# Altium footprint library IC.PcbLib: 18 footprints (part 1 of 2)
Each footprint in its own frame and in the unit in brackets; x right, y up, seen from the top. Pads: shape width x height; smd on the part's side, far side on the other; paste and mask are expansions set on the pad; w line width, h text height; cw(c..) or ccw(c..) is an arc to the next point about the centre after c.
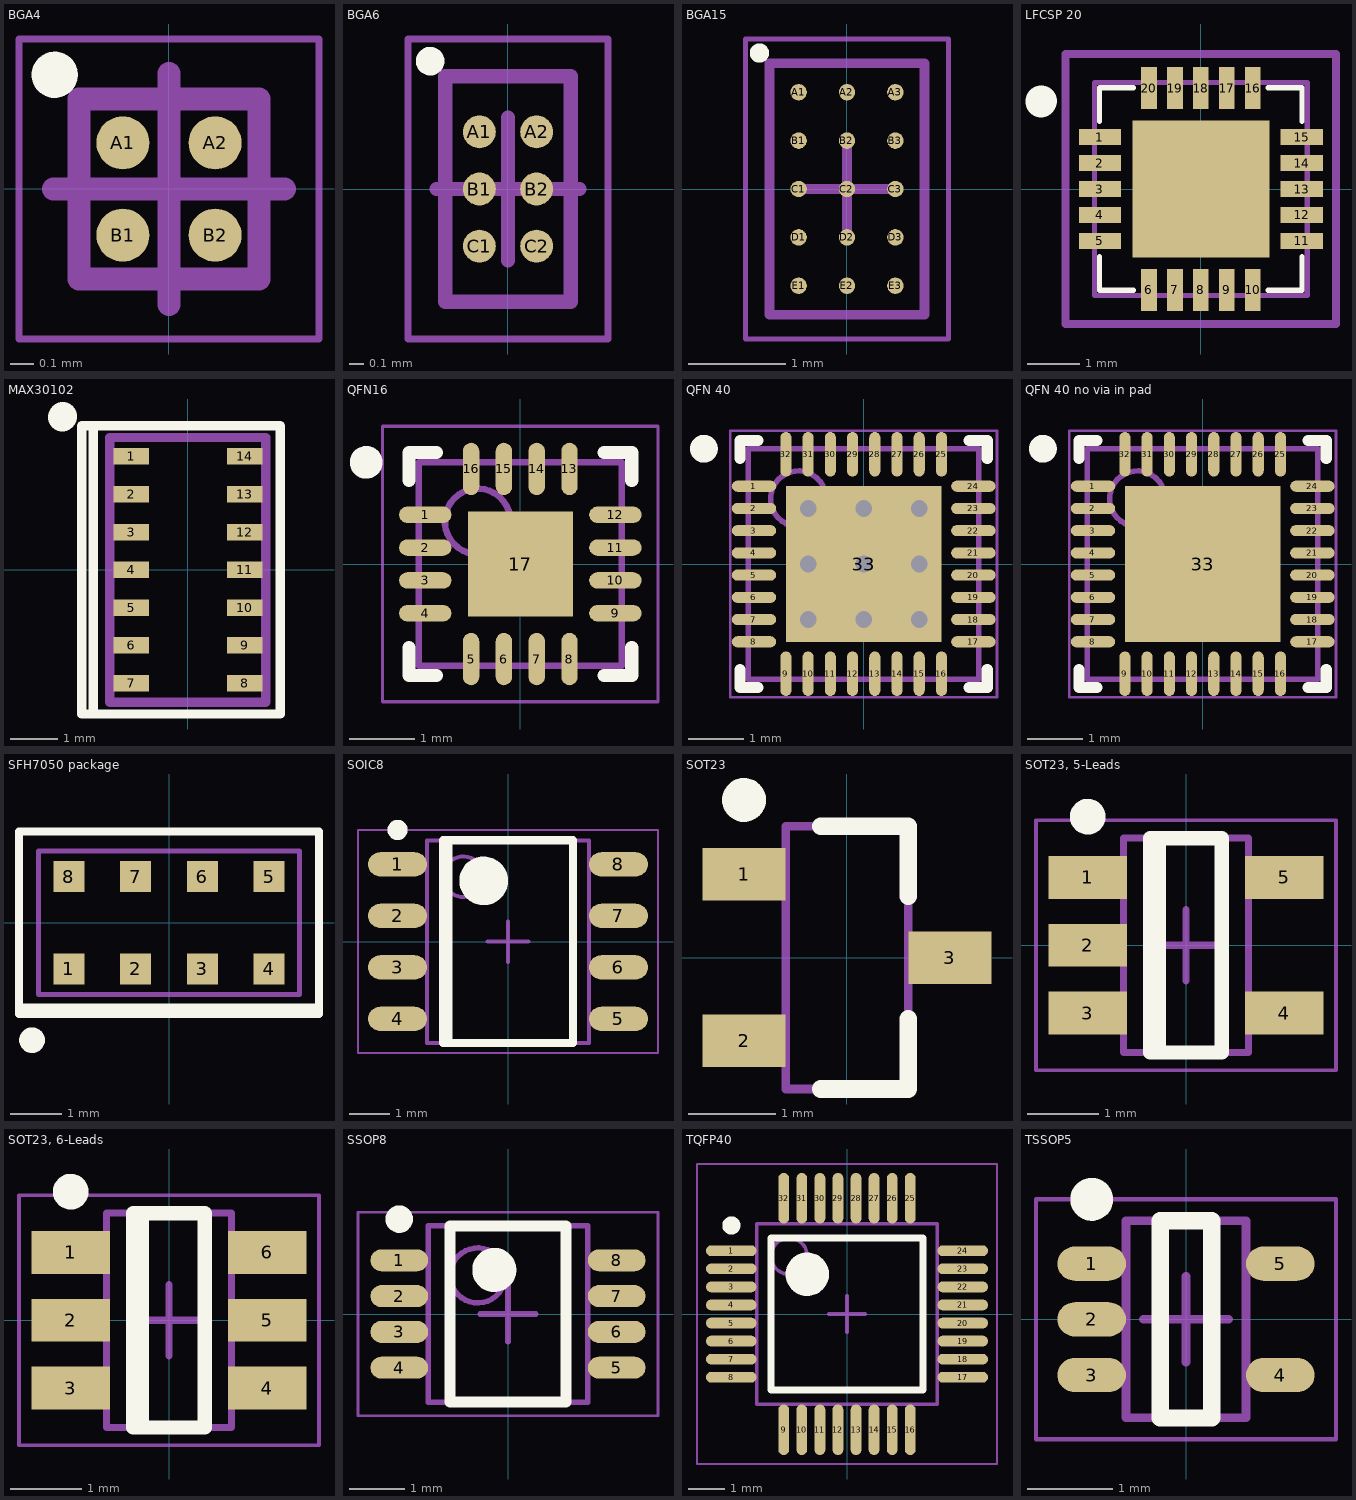
[diagram p0: the footprints below, top view; thin cyan lines are the x and y axes]

## BGA4 [mm] "BGA, 4-Leads, Body 0.78x0.78mmx0.50mm, Pitch 0.40mm"
height 0.5
pads (4):
  round 0.23 smd mask+0.05: A1(-0.2,0.2) A2(0.2,0.2) B1(-0.2,-0.2) B2(0.2,-0.2)
Top Overlay:
  circle w0.1: c-0.495,0.495 r0.05
Mechanical 13:
  lines w0.1: -0.39,-0.39 -0.39,0.39 0.39,0.39 0.39,-0.39 -0.39,-0.39
Mechanical 15:
  lines w0.03: -0.65,-0.65 -0.65,0.65 0.65,0.65 0.65,-0.65 -0.65,-0.65
  lines w0.1: -0.5,0 0.5,0 ; 0,-0.5 0,0.5
3D body: height 0.5, standoff 0.13, extent -0.39,-0.39 0.39,0.39

## BGA6 [mm] "BGA, 6-Leads, Body 0.88x1.58mmx0.50mm, Pitch 0.40mm"
height 0.5
pads (6):
  round 0.23 smd mask+0.05: A1(-0.2,0.4) A2(0.2,0.4) B1(-0.2,0) B2(0.2,0) C1(-0.2,-0.4) C2(0.2,-0.4)
Top Overlay:
  circle w0.1: c-0.545,0.895 r0.05
Mechanical 13:
  lines w0.1: -0.44,-0.79 -0.44,0.79 0.44,0.79 0.44,-0.79 -0.44,-0.79
Mechanical 15:
  lines w0.05: -0.7,-1.05 -0.7,1.05 0.7,1.05 0.7,-1.05 -0.7,-1.05
  lines w0.1: -0.5,0 0.5,0 ; 0,-0.5 0,0.5
3D body: height 0.5, standoff 0.13, extent -0.44,-0.79 0.44,0.79

## BGA15 [mm] "BGA, 15-Leads, Body 1,60x2,60mmx0,50mm, Pitch 0,50mm"
height 0.5
pads (15):
  round 0.17 smd mask+0.05: A1(-0.5,1) A2(0,1) A3(0.5,1) B1(-0.5,0.5) B2(0,0.5) B3(0.5,0.5) C1(-0.5,0) C2(0,0) C3(0.5,0) D1(-0.5,-0.5) D2(0,-0.5) D3(0.5,-0.5) E1(-0.5,-1) E2(0,-1) E3(0.5,-1)
Top Overlay:
  circle w0.1: c-0.905,1.405 r0.05
Mechanical 13:
  lines w0.1: -0.8,-1.3 0.8,-1.3 0.8,1.3 -0.8,1.3 -0.8,-1.3
Mechanical 15:
  lines w0.05: -1.05,-1.55 1.05,-1.55 1.05,1.55 -1.05,1.55 -1.05,-1.55
  lines w0.1: -0.5,0 0.5,0 ; 0,-0.5 0,0.5
3D body "BGA15C50P3X5_160X260X50.step": height 0.5, standoff 0, extent -0.8,-1.3 0.8,1.3

## LFCSP 20 [mil] "LFCSP_WQ 4x4MM JDEC"
pads (21):
  rect 32x12 smd mask+0: 1(-76.5,39.37) 2(-76.5,19.68) 3(-76.5,0) 4(-76.5,-19.68) 5(-76.5,-39.37) 11(76.5,-39.37) 12(76.5,-19.68) 13(76.5,0) 14(76.5,19.68) 15(76.5,39.37)
  rect 12x32 smd mask+0: 6(-39.37,-76.5) 7(-19.68,-76.5) 8(0,-76.5) 9(19.68,-76.5) 10(39.37,-76.5) 16(39.37,76.5) 17(19.68,76.5) 18(0,76.5) 19(-19.68,76.5) 20(-39.37,76.5)
  rect 104x104 smd mask+0: ""(0,0)
Top Overlay:
  lines w3.94: -76.77,-51.18 -76.77,-76.77 -51.18,-76.77 ; -76.77,51.18 -76.77,76.77 -51.18,76.77 ; 51.18,-76.77 76.77,-76.77 76.77,-51.18 ; 51.18,76.77 76.77,76.77 76.77,51.18
  lines w23.62: -121.26,65.96 ccw(c-123.03,66.82) -121.06,66.82
Mechanical 13:
  lines w3.94: -80.71,-80.71 -80.71,80.71 80.71,80.71 80.71,-80.71 -80.71,-80.71
Mechanical 15:
  lines w6: -102.5,-102.5 -102.5,102.5 102.5,102.5 102.5,-102.5 -102.5,-102.5
3D body: height 27.56, standoff 0, extent -80.71,-80.71 80.71,80.71

## MAX30102 [mm]
pads (14):
  rect 0.75x0.35 smd mask+0: 1(-1.2,2.4) 2(-1.2,1.6) 3(-1.2,0.8) 4(-1.2,0) 5(-1.2,-0.8) 6(-1.2,-1.6) 7(-1.2,-2.4) 8(1.2,-2.4) 9(1.2,-1.6) 10(1.2,-0.8) 11(1.2,0) 12(1.2,0.8) 13(1.2,1.6) 14(1.2,2.4)
Top Overlay:
  lines w0.2: -2,-3.05 -2,3.05 ; -2.25,-3.05 1.95,-3.05 1.95,3.05 -2.25,3.05 -2.25,-3.05
  lines w0.6: -2.655,3.225 ccw(c-2.7,3.247) -2.65,3.247
Mechanical 13:
  lines w0.2: -1.65,-2.8 -1.65,2.8 1.65,2.8 1.65,-2.8 -1.65,-2.8
3D body: height 1, standoff 0.05, extent -1.65,-2.8 1.65,2.8

## QFN16 [mm] "QFN, 16-Leads, Body 3.00x3.00mm, Pitch 0.50mm, Thermal Pad 1.68x1.68mm, IPC Medium Density"
height 1
pads (17):
  oval 0.8x0.25 smd: 1(-1.45,0.75) 2(-1.45,0.25) 3(-1.45,-0.25) 4(-1.45,-0.75) 9(1.45,-0.75) 10(1.45,-0.25) 11(1.45,0.25) 12(1.45,0.75)
  oval 0.25x0.8 smd: 5(-0.75,-1.45) 6(-0.25,-1.45) 7(0.25,-1.45) 8(0.75,-1.45) 13(0.75,1.45) 14(0.25,1.45) 15(-0.25,1.45) 16(-0.75,1.45)
  rect 1.6x1.6 smd: 17(0,0)
Top Overlay:
  circle w0.25: c-2.35,1.55 r0.125
  lines w0.2: -1.7,-1.275 -1.7,-1.7 -1.275,-1.7 ; -1.7,1.275 -1.7,1.7 -1.275,1.7 ; 1.275,-1.7 1.7,-1.7 1.7,-1.275 ; 1.275,1.7 1.7,1.7 1.7,1.275
Mechanical 13:
  circle w0.1: c-0.65,0.65 r0.5
  lines w0.1: -1.55,-1.55 1.55,-1.55 1.55,1.55 -1.55,1.55 -1.55,-1.55
Mechanical 15:
  lines w0.05: -2.1,-2.1 2.1,-2.1 2.1,2.1 -2.1,2.1 -2.1,-2.1
  lines w0.1: -0.5,0 0.5,0 ; 0,-0.5 0,0.5
3D body: height 1, standoff 0.05, extent -1.55,-1.55 1.55,1.55

## QFN 40 [mm] "QFN, 32-Leads, Body 4,00x4,00mm, Pitch 0,40mm, Thermal Pad 2,80x2,80mm, IPC Medium Density"
height 1
pads (33):
  oval 0.8x0.2 smd mask+0.05: 1(-1.975,1.4) 2(-1.975,1) 3(-1.975,0.6) 4(-1.975,0.2) 5(-1.975,-0.2) 6(-1.975,-0.6) 7(-1.975,-1) 8(-1.975,-1.4) 17(1.975,-1.4) 18(1.975,-1) 19(1.975,-0.6) 20(1.975,-0.2) 21(1.975,0.2) 22(1.975,0.6) 23(1.975,1) 24(1.975,1.4)
  oval 0.2x0.8 smd mask+0.05: 9(-1.4,-1.975) 10(-1,-1.975) 11(-0.6,-1.975) 12(-0.2,-1.975) 13(0.2,-1.975) 14(0.6,-1.975) 15(1,-1.975) 16(1.4,-1.975) 25(1.4,1.975) 26(1,1.975) 27(0.6,1.975) 28(0.2,1.975) 29(-0.2,1.975) 30(-0.6,1.975) 31(-1,1.975) 32(-1.4,1.975)
  rect 2.8x2.8 smd mask+0.05: 33(0,0)
via 1,-1 diameter 0.5 hole 0.3
via 0,-1 diameter 0.5 hole 0.3
via 1,0 diameter 0.5 hole 0.3
via -1,0 diameter 0.5 hole 0.3
via 0,1 diameter 0.5 hole 0.3
via 0,0 diameter 0.5 hole 0.3
via -1,-1 diameter 0.5 hole 0.3
via 1,1 diameter 0.5 hole 0.3
via -1,1 diameter 0.5 hole 0.3
Top Overlay:
  circle w0.25: c-2.875,2.075 r0.125
  lines w0.2: -2.225,-1.9 -2.225,-2.225 -1.9,-2.225 ; -2.225,1.9 -2.225,2.225 -1.9,2.225 ; 1.9,-2.225 2.225,-2.225 2.225,-1.9 ; 1.9,2.225 2.225,2.225 2.225,1.9
Mechanical 13:
  circle w0.1: c-1.175,1.175 r0.5
  lines w0.1: -2.075,-2.075 2.075,-2.075 2.075,2.075 -2.075,2.075 -2.075,-2.075
Mechanical 15:
  lines w0.05: -2.4,-2.4 2.4,-2.4 2.4,2.4 -2.4,2.4 -2.4,-2.4
  lines w0.1: -0.5,0 0.5,0 ; 0,-0.5 0,0.5
3D body "QFN40P400X400X100_HS-33N.step": height 1, standoff 0, extent -2.076,-2.076 2.076,2.076

## QFN 40 no via in pad [mm] "QFN, 32-Leads, Body 4,00x4,00mm, Pitch 0,40mm, Thermal Pad 2,80x2,80mm, IPC Medium Density"
height 1
pads (33):
  oval 0.8x0.2 smd mask+0: 1(-1.975,1.4) 2(-1.975,1) 3(-1.975,0.6) 4(-1.975,0.2) 5(-1.975,-0.2) 6(-1.975,-0.6) 7(-1.975,-1) 8(-1.975,-1.4) 17(1.975,-1.4) 18(1.975,-1) 19(1.975,-0.6) 20(1.975,-0.2) 21(1.975,0.2) 22(1.975,0.6) 23(1.975,1) 24(1.975,1.4)
  oval 0.2x0.8 smd mask+0: 9(-1.4,-1.975) 10(-1,-1.975) 11(-0.6,-1.975) 12(-0.2,-1.975) 13(0.2,-1.975) 14(0.6,-1.975) 15(1,-1.975) 16(1.4,-1.975) 25(1.4,1.975) 26(1,1.975) 27(0.6,1.975) 28(0.2,1.975) 29(-0.2,1.975) 30(-0.6,1.975) 31(-1,1.975) 32(-1.4,1.975)
  rect 2.8x2.8 smd mask+0: 33(0,0)
Top Overlay:
  circle w0.25: c-2.875,2.075 r0.125
  lines w0.2: -2.225,-1.9 -2.225,-2.225 -1.9,-2.225 ; -2.225,1.9 -2.225,2.225 -1.9,2.225 ; 1.9,-2.225 2.225,-2.225 2.225,-1.9 ; 1.9,2.225 2.225,2.225 2.225,1.9
Mechanical 13:
  circle w0.1: c-1.175,1.175 r0.5
  lines w0.1: -2.075,-2.075 -2.075,2.075 2.075,2.075 2.075,-2.075 -2.075,-2.075
Mechanical 15:
  lines w0.05: -2.4,-2.4 -2.4,2.4 2.4,2.4 2.4,-2.4 -2.4,-2.4
  lines w0.1: -0.5,0 0.5,0 ; 0,-0.5 0,0.5
3D body "QFN40P400X400X100_HS-33N.step": height 1, standoff 0, extent -2.076,-2.076 2.076,2.076

## SFH7050 package [mm] "SFH7050 package"
height 1.1
pads (8):
  rect 0.6x0.6 smd mask+0.1: 1(-1.95,-0.9) 2(-0.65,-0.9) 3(0.65,-0.9) 4(1.95,-0.9) 5(1.95,0.9) 6(0.65,0.9) 7(-0.65,0.9) 8(-1.95,0.9)
Top Overlay:
  circle w0.25: c-2.667,-2.286 r0.125
  lines w0.15: -2.921,-1.651 -2.794,-1.651 2.921,-1.651 ; 2.921,-1.651 2.921,1.778 -2.921,1.778 -2.921,-1.778 2.921,-1.778 2.921,-1.651
Mechanical 13:
  lines w0.1: -2.54,-1.397 2.54,-1.397 2.54,1.397 -2.54,1.397 -2.54,-1.397
3D body: height 1.1, standoff 0.05, extent -2.54,-1.397 2.54,1.397

## SOIC8 [mm] "SOIC, 8-Leads, Body 4.90x3.90mm, Pitch 1.27mm, IPC Medium Density"
height 1.75
pads (8):
  oval 1.45x0.6 smd: 1(-2.725,1.905) 2(-2.725,0.635) 3(-2.725,-0.635) 4(-2.725,-1.905) 5(2.725,-1.905) 6(2.725,-0.635) 7(2.725,0.635) 8(2.725,1.905)
Top Overlay:
  circle w0.25: c-2.725,2.755 r0.125
  circle w0.6: c-0.6,1.5 r0.3
  lines w0.2: -1.473,-2.5 -1.473,2.5 ; -1.6,-2.5 -1.6,2.5 1.6,2.5 1.6,-2.5 -1.6,-2.5
Mechanical 13:
  circle w0.1: c-1.1,1.6 r0.5
  lines w0.1: -2,-2.5 -2,2.5 2,2.5 2,-2.5 -2,-2.5
Mechanical 15:
  lines w0.05: -3.7,-2.75 -3.7,2.75 3.7,2.75 3.7,-2.75 -3.7,-2.75
  lines w0.1: -0.5,0 0.5,0 ; 0,-0.5 0,0.5
3D body: height 1.75, standoff 0.1, extent -2,-2.5 2,2.5

## SOT23 [mm] "SOT23, 3-Leads, Body 2.90x2.40mm, Pitch 0.95mm, IPC Medium Density"
height 1.1
pads (3):
  rect 0.95x0.6 smd: 1(-1.175,0.95) 2(-1.175,-0.95) 3(1.175,0)
Top Overlay:
  circle w0.25: c-1.175,1.8 r0.125
  lines w0.2: -0.3,-1.5 0.7,-1.5 0.7,-0.7 ; -0.3,1.5 0.7,1.5 0.7,0.7
Mechanical 13:
  lines w0.1: -0.7,-1.5 -0.7,1.5 0.7,1.5 0.7,-1.5 -0.7,-1.5
3D body: height 1.1, standoff 0.05, extent -0.7,-1.5 0.7,1.5

## SOT23, 5-Leads [mm] "SOT23, 5-Leads, Body 2.88x2.80mm, Pitch 0.95mm, IPC Medium Density"
height 1.45
pads (5):
  rect 1.1x0.6 smd: 1(-1.375,0.95) 2(-1.375,0) 3(-1.375,-0.95) 4(1.375,-0.95) 5(1.375,0.95)
Top Overlay:
  circle w0.25: c-1.375,1.8 r0.125
  lines w0.2: -0.381,-1.5 -0.381,1.5 ; -0.5,-1.5 -0.5,1.5 0.5,1.5 0.5,-1.5 -0.5,-1.5
Mechanical 13:
  lines w0.1: -0.875,-1.5 0.875,-1.5 0.875,1.5 -0.875,1.5 -0.875,-1.5
Mechanical 15:
  lines w0.05: -2.1,-1.75 2.1,-1.75 2.1,1.75 -2.1,1.75 -2.1,-1.75
  lines w0.1: -0.5,0 0.5,0 ; 0,-0.5 0,0.5
3D body: height 1.45, standoff 0.15, extent -0.875,-1.5 0.875,1.5

## SOT23, 6-Leads [mm] "SOT23, 6-Leads, Body 2.88x2.80mm, Pitch 0.95mm, IPC Medium Density"
height 1.45
pads (6):
  rect 1.1x0.6 smd: 1(-1.375,0.95) 2(-1.375,0) 3(-1.375,-0.95) 4(1.375,-0.95) 5(1.375,0) 6(1.375,0.95)
Top Overlay:
  circle w0.25: c-1.375,1.8 r0.125
  lines w0.2: -0.381,-1.5 -0.381,1.5 ; -0.5,-1.5 0.5,-1.5 0.5,1.5 -0.5,1.5 -0.5,-1.5
Mechanical 13:
  lines w0.1: -0.875,-1.5 -0.875,1.5 0.875,1.5 0.875,-1.5 -0.875,-1.5
Mechanical 15:
  lines w0.05: -2.1,-1.75 -2.1,1.75 2.1,1.75 2.1,-1.75 -2.1,-1.75
  lines w0.1: -0.5,0 0.5,0 ; 0,-0.5 0,0.5
3D body: height 1.45, standoff 0.15, extent -0.875,-1.5 0.875,1.5

## SSOP8 [mm]
height 1.3
pads (8):
  oval 1.05x0.4 smd: 1(-1.975,0.975) 2(-1.975,0.325) 3(-1.975,-0.325) 4(-1.975,-0.975) 5(1.975,-0.975) 6(1.975,-0.325) 7(1.975,0.325) 8(1.975,0.975)
Top Overlay:
  circle w0.25: c-1.975,1.725 r0.125
  circle w0.4: c-0.25,0.8 r0.2
  lines w0.2: -1.05,-1.6 -1.05,1.6 1.05,1.6 1.05,-1.6 -1.05,-1.6
Mechanical 13:
  circle w0.1: c-0.55,0.7 r0.5
  lines w0.1: -1.45,-1.6 -1.45,1.6 1.45,1.6 1.45,-1.6 -1.45,-1.6
Mechanical 15:
  lines w0.05: -2.725,-1.85 -2.725,1.85 2.725,1.85 2.725,-1.85 -2.725,-1.85
  lines w0.1: -0.5,0 0.5,0 ; 0,-0.5 0,0.5
3D body: height 1.3, standoff 0.1, extent -1.45,-1.6 1.45,1.6

## TQFP40 [mm] "TSQFP, 32-Leads, Body 5.00x5.00mm, Pitch 0.50mm, IPC Medium Density"
height 1.2
pads (32):
  oval 1.4x0.3 smd: 1(-3.2,1.75) 2(-3.2,1.25) 3(-3.2,0.75) 4(-3.2,0.25) 5(-3.2,-0.25) 6(-3.2,-0.75) 7(-3.2,-1.25) 8(-3.2,-1.75) 17(3.2,-1.75) 18(3.2,-1.25) 19(3.2,-0.75) 20(3.2,-0.25) 21(3.2,0.25) 22(3.2,0.75) 23(3.2,1.25) 24(3.2,1.75)
  oval 0.3x1.4 smd: 9(-1.75,-3.2) 10(-1.25,-3.2) 11(-0.75,-3.2) 12(-0.25,-3.2) 13(0.25,-3.2) 14(0.75,-3.2) 15(1.25,-3.2) 16(1.75,-3.2) 25(1.75,3.2) 26(1.25,3.2) 27(0.75,3.2) 28(0.25,3.2) 29(-0.25,3.2) 30(-0.75,3.2) 31(-1.25,3.2) 32(-1.75,3.2)
Top Overlay:
  circle w0.6: c-1.1,1.1 r0.3
  circle w0.25: c-3.2,2.45 r0.125
  lines w0.2: -2.1,-2.1 2.1,-2.1 2.1,2.1 -2.1,2.1 -2.1,-2.1
Mechanical 13:
  circle w0.1: c-1.6,1.6 r0.5
  lines w0.1: -2.5,-2.5 2.5,-2.5 2.5,2.5 -2.5,2.5 -2.5,-2.5
Mechanical 15:
  lines w0.05: -4.15,-4.15 4.15,-4.15 4.15,4.15 -4.15,4.15 -4.15,-4.15
  lines w0.1: -0.5,0 0.5,0 ; 0,-0.5 0,0.5
3D body: height 1.2, standoff 0.15, extent -2.5,-2.5 2.5,2.5

## TSSOP5 [mm]
height 1.1
pads (5):
  oval 0.8x0.4 smd: 1(-1.1,0.65) 2(-1.1,0) 3(-1.1,-0.65) 4(1.1,-0.65) 5(1.1,0.65)
Top Overlay:
  circle w0.25: c-1.1,1.4 r0.125
  lines w0.2: -0.3,-1.15 0.3,-1.15 0.3,1.15 -0.3,1.15 -0.3,-1.15
Mechanical 13:
  lines w0.1: -0.7,-1.15 0.7,-1.15 0.7,1.15 -0.7,1.15 -0.7,-1.15
Mechanical 15:
  lines w0.05: -1.75,-1.4 1.75,-1.4 1.75,1.4 -1.75,1.4 -1.75,-1.4
  lines w0.1: -0.5,0 0.5,0 ; 0,-0.5 0,0.5
3D body: height 1.1, standoff 0.15, extent -0.7,-1.15 0.7,1.15